# EAGLE library part TB6560 (library tb6560)
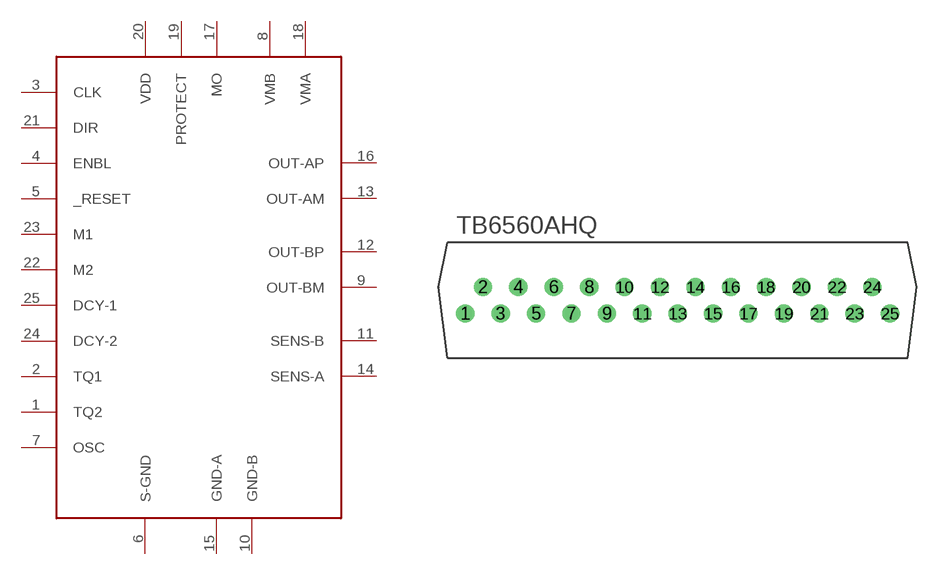
[diagram p0: symbol with the pads of ZIP25; footprint ZIP25]

Designator prefix -

## TB6560  [ZIP25]
1  TQ2
2  TQ1
3  CLK
4  ENBL
5  _RESET
6  S-GND
7  OSC
8  VMB
9  OUT-BM  out
10  GND-B
11  SENS-B
12  OUT-BP  out
13  OUT-AM  out
14  SENS-A
15  GND-A
16  OUT-AP  out
17  MO
18  VMA
19  PROTECT
20  VDD
21  DIR
22  M2
23  M1
24  DCY-2
25  DCY-1

## Footprint ZIP25 (pad centres in mm)
drill 0.8 pad 1.27: 1 -15.24,0; 2 -13.97,1.905; 3 -12.7,0; 4 -11.43,1.905; 5 -10.16,0; 6 -8.89,1.905; 7 -7.62,0; 8 -6.35,1.905; 9 -5.08,0; 10 -3.81,1.905; 11 -2.54,0; 12 -1.27,1.905; 13 0,0; 14 1.27,1.905; 15 2.54,0; 16 3.81,1.905; 17 5.08,0; 18 6.35,1.905; 19 7.62,0; 20 8.89,1.905; 21 10.16,0; 22 11.43,1.905; 23 12.7,0; 24 13.97,1.905; 25 15.24,0